# Altium schematic symbol library UA78M.SchLib: 1 symbol
Pins are listed as number, name and electrical type; pins without a type are passive.

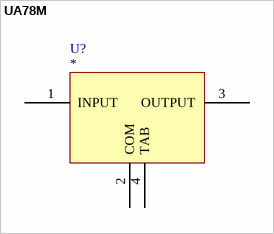
[diagram p0: symbol UA78M]

## UA78M
designator U?
pins: 1 INPUT (power), 2 COM (power), 3 OUTPUT (power), 4 TAB (power)